# EAGLE library part MC68150 (library Custom)
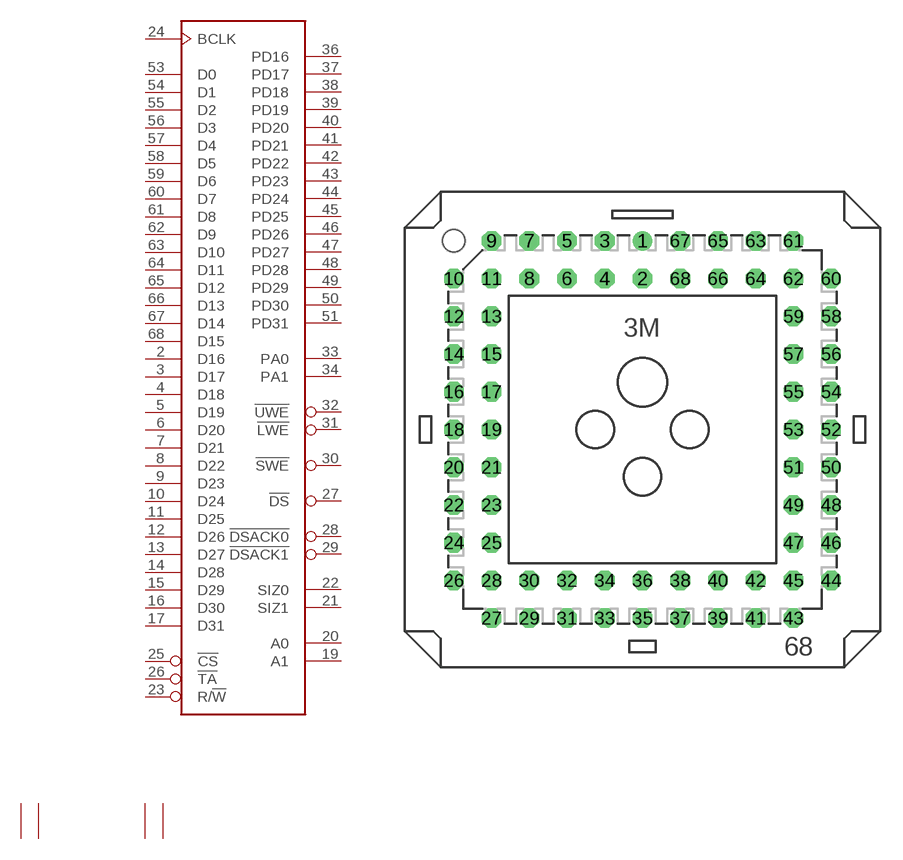
[diagram p5: symbol with the pads of 3M68; footprint 3M68]

Designator prefix -

## MC68150  [3M68]
1  VCC  pwr
2  D16
3  D17
4  D18
5  D19
6  D20
7  D21
8  D22
9  D23
10  D24
11  D25
12  D26
13  D27
14  D28
15  D29
16  D30
17  D31
18  GND  pwr
19  A1  in
20  A0  in
21  SIZ1  out
22  SIZ0  in
23  R/!W  in
24  BCLK  in
25  !CS  in
26  !TA  out
27  !DS  out
28  !DSACK0  in
29  !DSACK1  out
30  !SWE  out
31  !LWE  out
32  !UWE  out
33  PA0  out
34  PA1  out
35  VCC  pwr
36  PD16
37  PD17
38  PD18
39  PD19
40  PD20
41  PD21
42  PD22
43  PD23
44  PD24
45  PD25
46  PD26
47  PD27
48  PD28
49  PD29
50  PD30
51  PD31
52  GND  pwr
53  D0
54  D1
55  D2
56  D3
57  D4
58  D5
59  D6
60  D7
61  D8
62  D9
63  D10
64  D11
65  D12
66  D13
67  D14
68  D15

## Footprint 3M68 (pad centres in mm)
PLCC SOCKET
drill 0.813: 1 0,12.7
drill 0.813 octagon: 2 0,10.16; 3 -2.54,12.7; 4 -2.54,10.16; 5 -5.08,12.7; 6 -5.08,10.16; 7 -7.62,12.7; 8 -7.62,10.16; 9 -10.16,12.7; 10 -12.7,10.16; 11 -10.16,10.16; 12 -12.7,7.62; 13 -10.16,7.62; 14 -12.7,5.08; 15 -10.16,5.08; 16 -12.7,2.54; 17 -10.16,2.54; 18 -12.7,0; 19 -10.16,0; 20 -12.7,-2.54; 21 -10.16,-2.54; 22 -12.7,-5.08; 23 -10.16,-5.08; 24 -12.7,-7.62; 25 -10.16,-7.62; 26 -12.7,-10.16; 27 -10.16,-12.7; 28 -10.16,-10.16; 29 -7.62,-12.7; 30 -7.62,-10.16; 31 -5.08,-12.7; 32 -5.08,-10.16; 33 -2.54,-12.7; 34 -2.54,-10.16; 35 0,-12.7; 36 0,-10.16; 37 2.54,-12.7; 38 2.54,-10.16; 39 5.08,-12.7; 40 5.08,-10.16; 41 7.62,-12.7; 42 7.62,-10.16; 43 10.16,-12.7; 44 12.7,-10.16; 45 10.16,-10.16; 46 12.7,-7.62; 47 10.16,-7.62; 48 12.7,-5.08; 49 10.16,-5.08; 50 12.7,-2.54; 51 10.16,-2.54; 52 12.7,0; 53 10.16,0; 54 12.7,2.54; 55 10.16,2.54; 56 12.7,5.08; 57 10.16,5.08; 58 12.7,7.62; 59 10.16,7.62; 60 12.7,10.16; 61 10.16,12.7; 62 10.16,10.16; 63 7.62,12.7; 64 7.62,10.16; 65 5.08,12.7; 66 5.08,10.16; 67 2.54,12.7; 68 2.54,10.16
hole 1.499 at -12.7,12.7